# Altium schematic symbol library 4_Pin_ScrewTerm.SchLib: 1 symbol
Pins are listed as number, name and electrical type; pins without a type are passive.

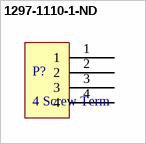
[diagram p0: symbol 1297-1110-1-ND]

## 1297-1110-1-ND
designator P?, comment 4 Screw Term
1297-1110-1-ND
footprint 4 Pin Screw Terminal
pins: 1, 2, 3, 4